# Altium schematic symbol library CN_MODJACK_6P.SchLib: 1 symbol
Pins are listed as number, name and electrical type; pins without a type are passive.

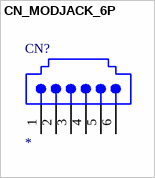
[diagram p0: symbol CN_MODJACK_6P]

## CN_MODJACK_6P
designator CN?
pins: 1, 2, 3, 4, 5, 6